# EAGLE library part LPC810 (library usevolt)
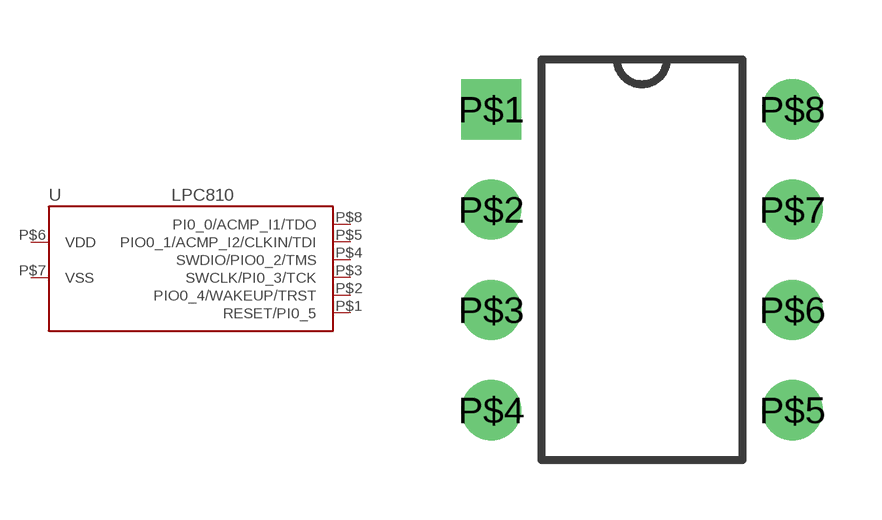
[diagram p14: symbol with the pads of DIP8; footprint DIP8]

Designator prefix U

## LPC810DIP8  [DIP8]
P$1  RESET/PI0_5
P$2  PIO0_4/WAKEUP/TRST
P$3  SWCLK/PI0_3/TCK
P$4  SWDIO/PIO0_2/TMS
P$5  PIO0_1/ACMP_I2/CLKIN/TDI
P$6  VDD
P$7  VSS
P$8  PI0_0/ACMP_I1/TDO

## Footprint DIP8 (pad centres in mm)
drill 1.016 square: P$1 0,0
drill 1.016: P$2 0,-2.54; P$3 0,-5.08; P$4 0,-7.62; P$5 7.62,-7.62; P$6 7.62,-5.08; P$7 7.62,-2.54; P$8 7.62,0